# Altium schematic symbol library 3425L200_60MR.SchLib: 1 symbol
Pins are listed as number, name and electrical type; pins without a type are passive.

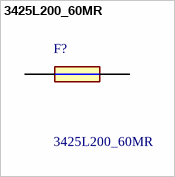
[diagram p0: symbol 3425L200_60MR]

## 3425L200_60MR
designator F?
Resettable Fuses - PPTC 3425L Series PPTC; Manufacturer_Name: LITTELFUSE; Manufacturer_Part_Number: 3425L200/60MR; Geometry.Height: 1.8mm; Mouser Part Number: 576-3425L200/60MR; Mouser Price/Stock: https://www.mouser.co.uk/ProductDetail/Littelfuse/3425L200-60MR?qs=Jm2GQyTW%2Fbiqdph8lH2A%2FA%3D%3D; Datasheet Link: https://www.littelfuse.com/media?resourcetype=datasheets&itemid=bc6d850b-99e2-4108-9141-9afcdeb5e383&filename=littelfuse-pptc-3425l-datasheet
footprint FUSC8664X180N
pins: 1, 2